# EAGLE library part AT91SAM7S32 (library atmel_prototype_header)
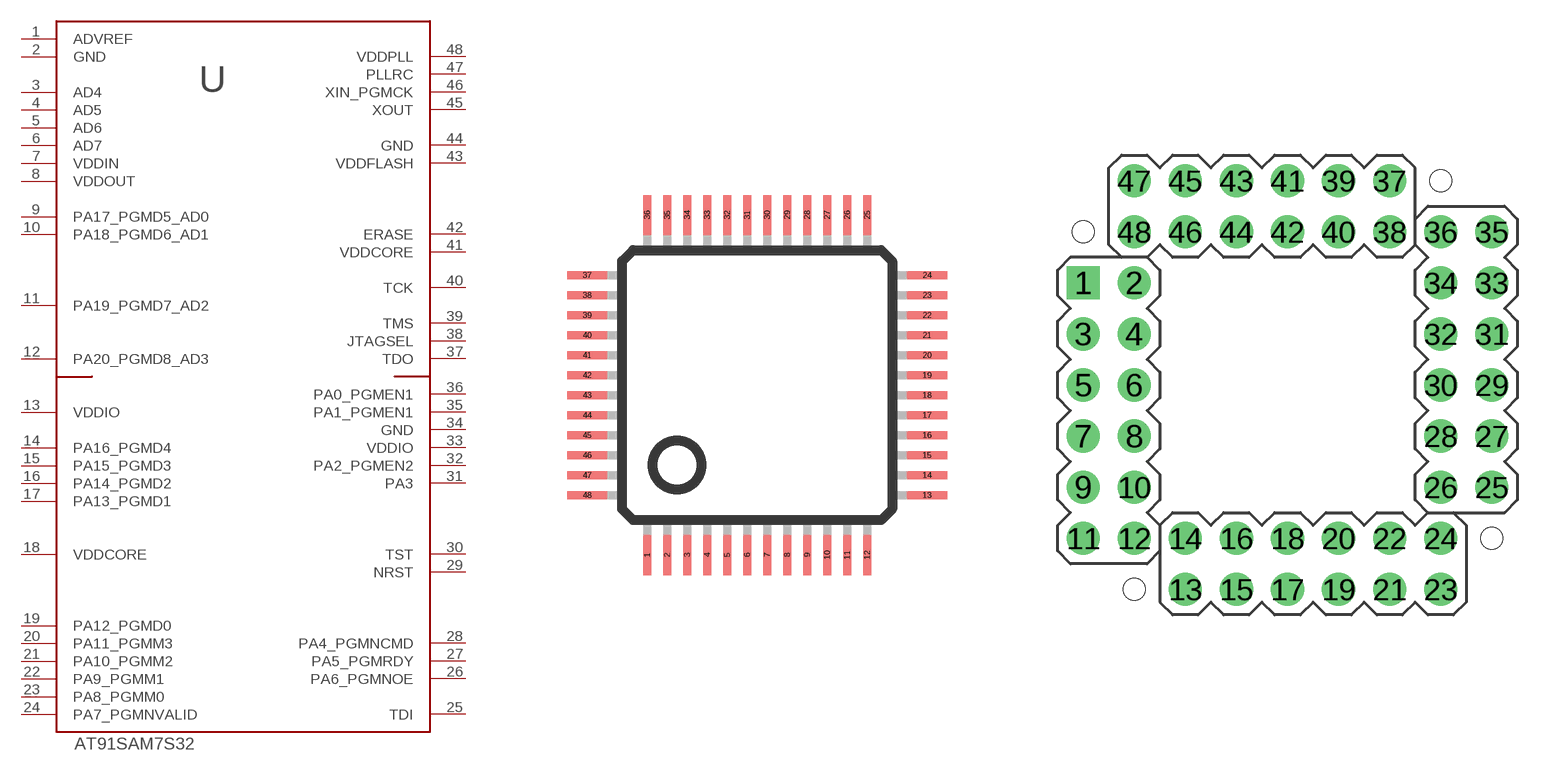
[diagram p9: symbol with the pads of LQFP48_N; footprints LQFP48_N, HEADER_PLCC52_43]

Designator prefix U

## AT91SAM7S32_LQFP48_N  [LQFP48_N]
1  ADVREF  in
2  GND
3  AD4
4  AD5
5  AD6
6  AD7
7  VDDIN
8  VDDOUT
9  PA17_PGMD5_AD0
10  PA18_PGMD6_AD1
11  PA19_PGMD7_AD2
12  PA20_PGMD8_AD3
13  VDDIO
14  PA16_PGMD4
15  PA15_PGMD3  in
16  PA14_PGMD2  pwr
17  PA13_PGMD1  pwr
18  VDDCORE
19  PA12_PGMD0
20  PA11_PGMM3
21  PA10_PGMM2
22  PA9_PGMM1
23  PA8_PGMM0
24  PA7_PGMNVALID
25  TDI
26  PA6_PGMNOE
27  PA5_PGMRDY  out
28  PA4_PGMNCMD  out
29  NRST  out
30  TST  out
31  PA3
32  PA2_PGMEN2
33  VDDIO
34  GND
35  PA1_PGMEN1
36  PA0_PGMEN1
37  TDO
38  JTAGSEL
39  TMS
40  TCK  pwr
41  VDDCORE  in
42  ERASE  in
43  VDDFLASH  in
44  GND  in
45  XOUT  in
46  XIN_PGMCK
47  PLLRC
48  VDDPLL

## AT91SAM7S32_PLCC52_43  [HEADER_PLCC52_43]
Pads as for LQFP48_N

## AT91SAM7S32_PLCC52_35  [HEADER_PLCC52_35]
Pads as for LQFP48_N

## AT91SAM7S32_LQFP48_W  [LQFP48_W]
Pads as for LQFP48_N

## Footprint LQFP48_N (pad centres in mm)
48-pin plastic LQFP (FPT-48P-M26) www.fma.fujitsu.com/pdf/e713717.pdf
smd 0.2 x 1: 1 -2.75,-4.25; 2 -2.25,-4.25; 3 -1.75,-4.25; 4 -1.25,-4.25; 5 -0.75,-4.25; 6 -0.25,-4.25; 7 0.25,-4.25; 8 0.75,-4.25; 9 1.25,-4.25; 10 1.75,-4.25; 11 2.25,-4.25; 12 2.75,-4.25; 25 2.75,4.25; 26 2.25,4.25; 27 1.75,4.25; 28 1.25,4.25; 29 0.75,4.25; 30 0.25,4.25; 31 -0.25,4.25; 32 -0.75,4.25; 33 -1.25,4.25; 34 -1.75,4.25; 35 -2.25,4.25; 36 -2.75,4.25
smd 1 x 0.2: 13 4.25,-2.75; 14 4.25,-2.25; 15 4.25,-1.75; 16 4.25,-1.25; 17 4.25,-0.75; 18 4.25,-0.25; 19 4.25,0.25; 20 4.25,0.75; 21 4.25,1.25; 22 4.25,1.75; 23 4.25,2.25; 24 4.25,2.75; 37 -4.25,2.75; 38 -4.25,2.25; 39 -4.25,1.75; 40 -4.25,1.25; 41 -4.25,0.75; 42 -4.25,0.25; 43 -4.25,-0.25; 44 -4.25,-0.75; 45 -4.25,-1.25; 46 -4.25,-1.75; 47 -4.25,-2.25; 48 -4.25,-2.75

## Footprint HEADER_PLCC52_43 (pad centres in mm)
drill 1.1 square: 1 -10.16,5.08
drill 1.1 round: 2 -7.62,5.08; 3 -10.16,2.54; 4 -7.62,2.54; 5 -10.16,0; 6 -7.62,0; 7 -10.16,-2.54; 8 -7.62,-2.54; 9 -10.16,-5.08; 10 -7.62,-5.08; 11 -10.16,-7.62; 12 -7.62,-7.62; 13 -5.08,-10.16; 14 -5.08,-7.62; 15 -2.54,-10.16; 16 -2.54,-7.62; 17 0,-10.16; 18 0,-7.62; 19 2.54,-10.16; 20 2.54,-7.62; 21 5.08,-10.16; 22 5.08,-7.62; 23 7.62,-10.16; 24 7.62,-7.62; 25 10.16,-5.08; 26 7.62,-5.08; 27 10.16,-2.54; 28 7.62,-2.54; 29 10.16,0; 30 7.62,0; 31 10.16,2.54; 32 7.62,2.54; 33 10.16,5.08; 34 7.62,5.08; 35 10.16,7.62; 36 7.62,7.62; 37 5.08,10.16; 38 5.08,7.62; 39 2.54,10.16; 40 2.54,7.62; 41 0,10.16; 42 0,7.62; 43 -2.54,10.16; 44 -2.54,7.62; 45 -5.08,10.16; 46 -5.08,7.62; 47 -7.62,10.16; 48 -7.62,7.62
hole 1.1 at -10.16,7.62
hole 1.1 at -7.62,-10.16
hole 1.1 at 10.16,-7.62
hole 1.1 at 7.62,10.16

## Footprint HEADER_PLCC52_35 (pad centres in mm)
drill 0.9 square: 1 -10.16,5.08
drill 0.9 round: 2 -7.62,5.08; 3 -10.16,2.54; 4 -7.62,2.54; 5 -10.16,0; 6 -7.62,0; 7 -10.16,-2.54; 8 -7.62,-2.54; 9 -10.16,-5.08; 10 -7.62,-5.08; 11 -10.16,-7.62; 12 -7.62,-7.62; 13 -5.08,-10.16; 14 -5.08,-7.62; 15 -2.54,-10.16; 16 -2.54,-7.62; 17 0,-10.16; 18 0,-7.62; 19 2.54,-10.16; 20 2.54,-7.62; 21 5.08,-10.16; 22 5.08,-7.62; 23 7.62,-10.16; 24 7.62,-7.62; 25 10.16,-5.08; 26 7.62,-5.08; 27 10.16,-2.54; 28 7.62,-2.54; 29 10.16,0; 30 7.62,0; 31 10.16,2.54; 32 7.62,2.54; 33 10.16,5.08; 34 7.62,5.08; 35 10.16,7.62; 36 7.62,7.62; 37 5.08,10.16; 38 5.08,7.62; 39 2.54,10.16; 40 2.54,7.62; 41 0,10.16; 42 0,7.62; 43 -2.54,10.16; 44 -2.54,7.62; 45 -5.08,10.16; 46 -5.08,7.62; 47 -7.62,10.16; 48 -7.62,7.62
hole 0.9 at -10.16,7.62
hole 0.9 at -7.62,-10.16
hole 0.9 at 10.16,-7.62
hole 0.9 at 7.62,10.16

## Footprint LQFP48_W (pad centres in mm)
smd 0.27 x 1: 1 -2.75,-4.25; 2 -2.25,-4.25; 3 -1.75,-4.25; 4 -1.25,-4.25; 5 -0.75,-4.25; 6 -0.25,-4.25; 7 0.25,-4.25; 8 0.75,-4.25; 9 1.25,-4.25; 10 1.75,-4.25; 11 2.25,-4.25; 12 2.75,-4.25; 25 2.75,4.25; 26 2.25,4.25; 27 1.75,4.25; 28 1.25,4.25; 29 0.75,4.25; 30 0.25,4.25; 31 -0.25,4.25; 32 -0.75,4.25; 33 -1.25,4.25; 34 -1.75,4.25; 35 -2.25,4.25; 36 -2.75,4.25
smd 1 x 0.27: 13 4.25,-2.75; 14 4.25,-2.25; 15 4.25,-1.75; 16 4.25,-1.25; 17 4.25,-0.75; 18 4.25,-0.25; 19 4.25,0.25; 20 4.25,0.75; 21 4.25,1.25; 22 4.25,1.75; 23 4.25,2.25; 24 4.25,2.75; 37 -4.25,2.75; 38 -4.25,2.25; 39 -4.25,1.75; 40 -4.25,1.25; 41 -4.25,0.75; 42 -4.25,0.25; 43 -4.25,-0.25; 44 -4.25,-0.75; 45 -4.25,-1.25; 46 -4.25,-1.75; 47 -4.25,-2.25; 48 -4.25,-2.75